# Altium schematic symbol library tps25221dbvr.SchLib: 1 symbol
Pins are listed as number, name and electrical type; pins without a type are passive.

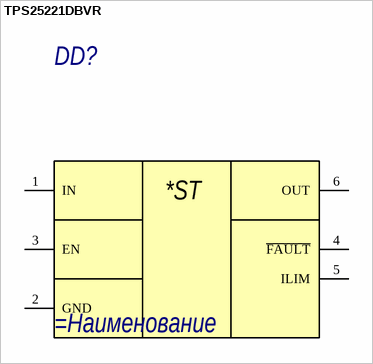
[diagram p0: symbol TPS25221DBVR]

## TPS25221DBVR
designator DD?
=Описание
pins: 1 IN, 2 GND, 3 EN, 4 ~{FAULT}, 5 ILIM, 6 OUT
text: *ST